# EAGLE library part DIPBOARD-2X20-32 (library Mechanical)
40 pin 600 mil wide by 100 mil configuration for use in 40 pin DIP socket
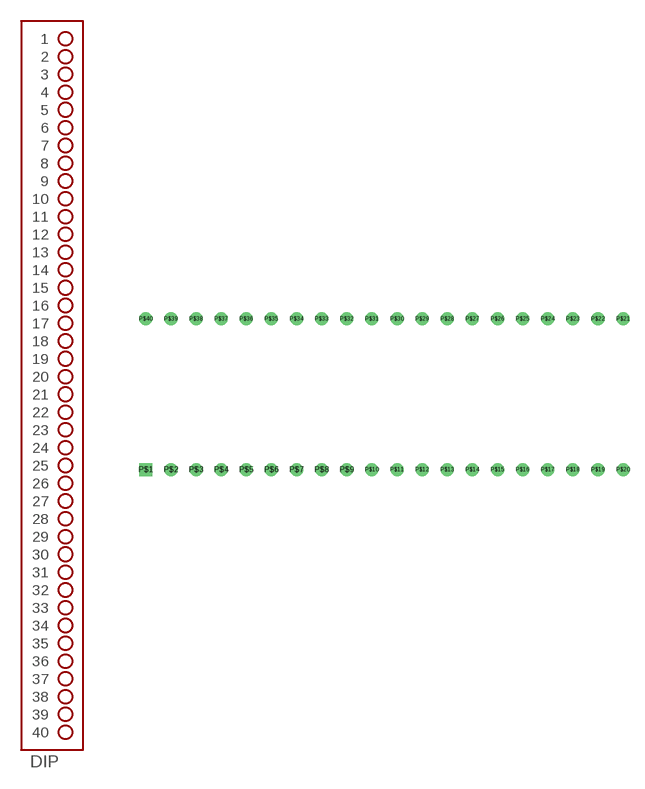
[diagram p33: symbol with the pads of DIP-HDR-32MIL; footprint DIP-HDR-32MIL]

Designator prefix DIP

## DIPBOARD-2X20-32  [DIP-HDR-32MIL]
P$1  1  pas
P$2  2  pas
P$3  3  pas
P$4  4  pas
P$5  5  pas
P$6  6  pas
P$7  7  pas
P$8  8  pas
P$9  9  pas
P$10  10  pas
P$11  11  pas
P$12  12  pas
P$13  13  pas
P$14  14  pas
P$15  15  pas
P$16  16  pas
P$17  17  pas
P$18  18  pas
P$19  19  pas
P$20  20  pas
P$21  21  pas
P$22  22  pas
P$23  23  pas
P$24  24  pas
P$25  25  pas
P$26  26  pas
P$27  27  pas
P$28  28  pas
P$29  29  pas
P$30  30  pas
P$31  31  pas
P$32  32  pas
P$33  33  pas
P$34  34  pas
P$35  35  pas
P$36  36  pas
P$37  37  pas
P$38  38  pas
P$39  39  pas
P$40  40  pas

## Footprint DIP-HDR-32MIL (pad centres in mm)
32mil header for 40 pin DIP boards
drill 0.813 square: P$1 0,0
drill 0.813: P$2 2.54,0; P$3 5.08,0; P$4 7.62,0; P$5 10.16,0; P$6 12.7,0; P$7 15.24,0; P$8 17.78,0; P$9 20.32,0; P$10 22.86,0; P$11 25.4,0; P$12 27.94,0; P$13 30.48,0; P$14 33.02,0; P$15 35.56,0; P$16 38.1,0; P$17 40.64,0; P$18 43.18,0; P$19 45.72,0; P$20 48.26,0; P$21 48.26,15.24; P$22 45.72,15.24; P$23 43.18,15.24; P$24 40.64,15.24; P$25 38.1,15.24; P$26 35.56,15.24; P$27 33.02,15.24; P$28 30.48,15.24; P$29 27.94,15.24; P$30 25.4,15.24; P$31 22.86,15.24; P$32 20.32,15.24; P$33 17.78,15.24; P$34 15.24,15.24; P$35 12.7,15.24; P$36 10.16,15.24; P$37 7.62,15.24; P$38 5.08,15.24; P$39 2.54,15.24; P$40 0,15.24